# EAGLE library part INA826 (library INA826)
INA826AIDR Texas Instruments InAmp https://www.ti.com/lit/ds/symlink/ina826.pdf
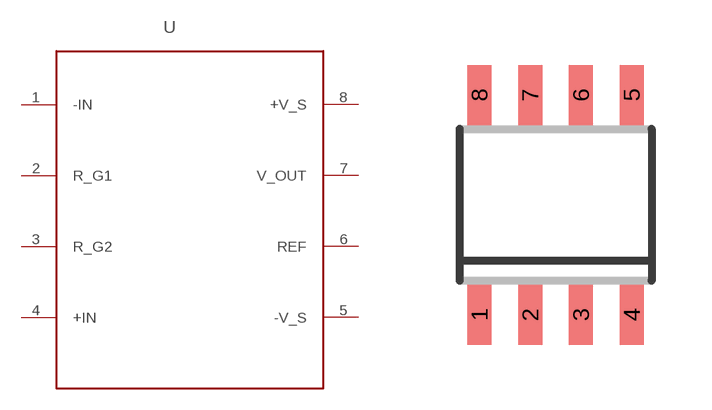
[diagram p0: symbol with the pads of SOIC8; footprint SOIC8]

Designator prefix -

## INA826  [SOIC8]
1  -IN  in
2  R_G1
3  R_G2
4  +IN
5  -V_S  pwr
6  REF  in
7  V_OUT  out
8  +V_S  pwr

## Footprint SOIC8 (pad centres in mm)
SOIC-8 CASE 751-07 Source: http://www.onsemi.com/pub/Collateral/MC34164-D.PDF D (R-PDSO-G8)PLATIC SMALL-OUTLINE PACKAGE Source: http://focus.ti.com/lit/ds/symlink/tlc27l2.pdf
smd 0.6 x 1.5: 1 -1.905,-2.75; 2 -0.635,-2.75; 3 0.635,-2.75; 4 1.905,-2.75; 5 1.905,2.75; 6 0.635,2.75; 7 -0.635,2.75; 8 -1.905,2.75